# EAGLE library part TUSB8042A (library Public)
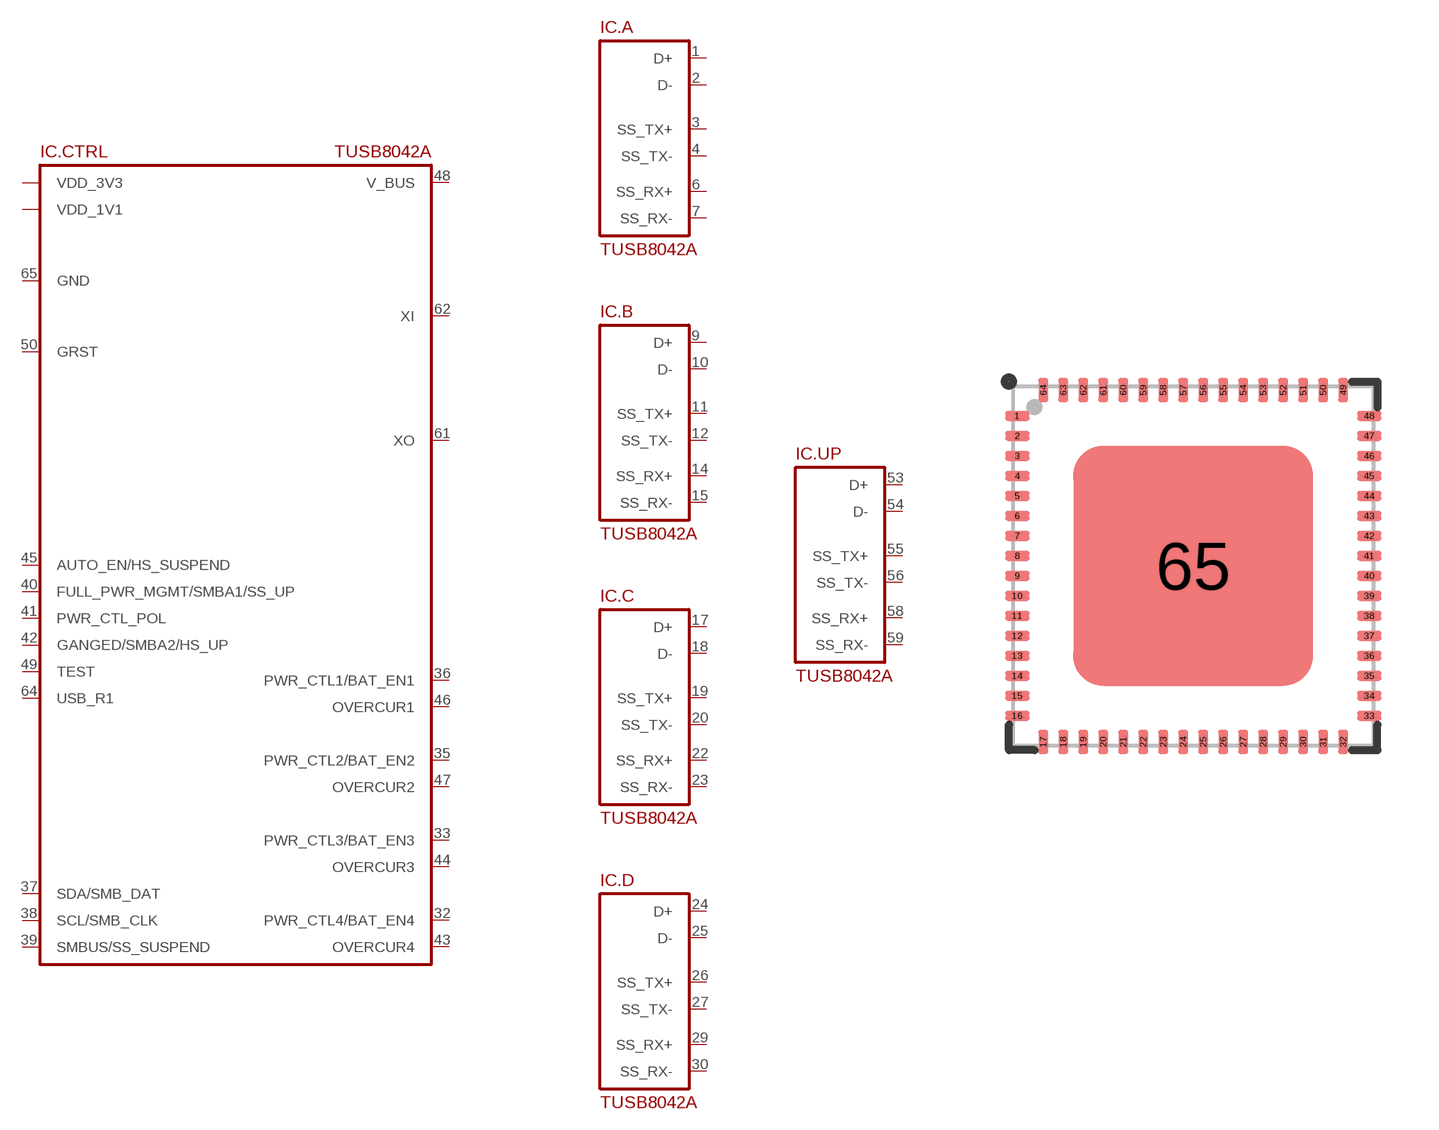
[diagram p219: symbol with the pads of VQFN64-0.5; footprint VQFN64-0.5]

Designator prefix IC; gates .CTRL=TUSB8042A .A=USB_3.0_PORT .B=USB_3.0_PORT .C=USB_3.0_PORT .D=USB_3.0_PORT .UP=USB_3.0_PORT

## TUSB8042A  [VQFN64-0.5]
1  .A:D+
2  .A:D-
3  .A:SS_TX+
4  .A:SS_TX-
5  .CTRL:VDD_1V1
6  .A:SS_RX+
7  .A:SS_RX-
8  .CTRL:VDD_1V1
9  .B:D+
10  .B:D-
11  .B:SS_TX+
12  .B:SS_TX-
13  .CTRL:VDD_1V1
14  .B:SS_RX+
15  .B:SS_RX-
16  .CTRL:VDD_3V3
17  .C:D+
18  .C:D-
19  .C:SS_TX+
20  .C:SS_TX-
21  .CTRL:VDD_1V1
22  .C:SS_RX+
23  .C:SS_RX-
24  .D:D+
25  .D:D-
26  .D:SS_TX+
27  .D:SS_TX-
28  .CTRL:VDD_1V1
29  .D:SS_RX+
30  .D:SS_RX-
31  .CTRL:VDD_1V1
32  .CTRL:PWR_CTL4/BAT_EN4
33  .CTRL:PWR_CTL3/BAT_EN3
34  .CTRL:VDD_3V3
35  .CTRL:PWR_CTL2/BAT_EN2
36  .CTRL:PWR_CTL1/BAT_EN1
37  .CTRL:SDA/SMB_DAT
38  .CTRL:SCL/SMB_CLK
39  .CTRL:SMBUS/SS_SUSPEND
40  .CTRL:FULL_PWR_MGMT/SMBA1/SS_UP
41  .CTRL:PWR_CTL_POL
42  .CTRL:GANGED/SMBA2/HS_UP
43  .CTRL:OVERCUR4
44  .CTRL:OVERCUR3
45  .CTRL:AUTO_EN/HS_SUSPEND
46  .CTRL:OVERCUR1
47  .CTRL:OVERCUR2
48  .CTRL:V_BUS
49  .CTRL:TEST
50  .CTRL:GRST
51  .CTRL:VDD_1V1
52  .CTRL:VDD_3V3
53  .UP:D+
54  .UP:D-
55  .UP:SS_TX+
56  .UP:SS_TX-
57  .CTRL:VDD_1V1
58  .UP:SS_RX+
59  .UP:SS_RX-
61  .CTRL:XO
62  .CTRL:XI
63  .CTRL:VDD_3V3
64  .CTRL:USB_R1
65  .CTRL:GND

## Footprint VQFN64-0.5 (pad centres in mm)
smd 0.6 x 0.24: 1 -4.4,3.75; 2 -4.4,3.25; 3 -4.4,2.75; 4 -4.4,2.25; 5 -4.4,1.75; 6 -4.4,1.25; 7 -4.4,0.75; 8 -4.4,0.25; 9 -4.4,-0.25; 10 -4.4,-0.75; 11 -4.4,-1.25; 12 -4.4,-1.75; 13 -4.4,-2.25; 14 -4.4,-2.75; 15 -4.4,-3.25; 16 -4.4,-3.75; 33 4.4,-3.75; 34 4.4,-3.25; 35 4.4,-2.75; 36 4.4,-2.25; 37 4.4,-1.75; 38 4.4,-1.25; 39 4.4,-0.75; 40 4.4,-0.25; 41 4.4,0.25; 42 4.4,0.75; 43 4.4,1.25; 44 4.4,1.75; 45 4.4,2.25; 46 4.4,2.75; 47 4.4,3.25; 48 4.4,3.75
smd 0.24 x 0.6: 17 -3.75,-4.4; 18 -3.25,-4.4; 19 -2.75,-4.4; 20 -2.25,-4.4; 21 -1.75,-4.4; 22 -1.25,-4.4; 23 -0.75,-4.4; 24 -0.25,-4.4; 25 0.25,-4.4; 26 0.75,-4.4; 27 1.25,-4.4; 28 1.75,-4.4; 29 2.25,-4.4; 30 2.75,-4.4; 31 3.25,-4.4; 32 3.75,-4.4; 49 3.75,4.4; 50 3.25,4.4; 51 2.75,4.4; 52 2.25,4.4; 53 1.75,4.4; 54 1.25,4.4; 55 0.75,4.4; 56 0.25,4.4; 57 -0.25,4.4; 58 -0.75,4.4; 59 -1.25,4.4; 60 -1.75,4.4; 61 -2.25,4.4; 62 -2.75,4.4; 63 -3.25,4.4; 64 -3.75,4.4
smd 6 x 6: 65 0,0